# Altium schematic symbol library Diodes.SchLib: 45 symbols
Pins are listed as number, name and electrical type; pins without a type are passive.

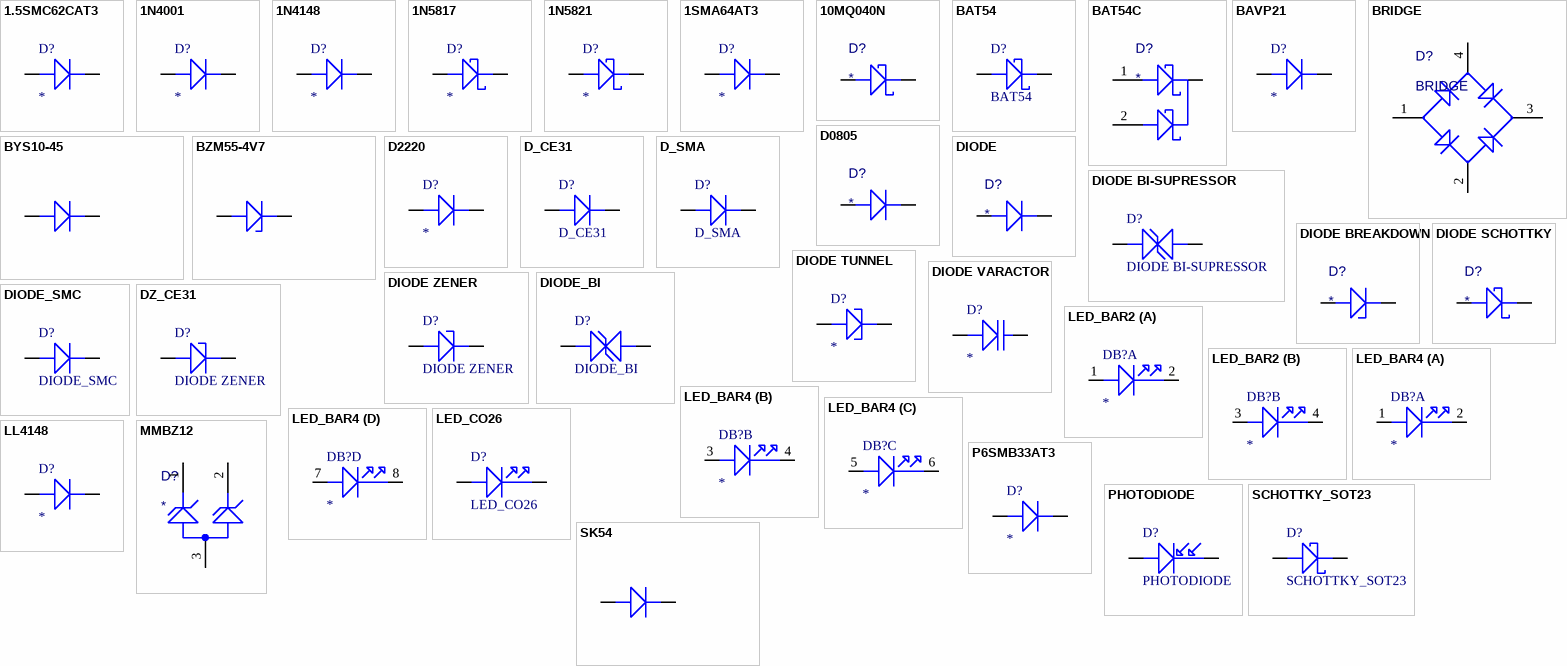
[diagram p0: symbols 1.5SMC62CAT3 to SK54]

## 1.5SMC62CAT3
designator D?
simulation model 15SMC62AT3 (Model Description)
pins: ANOD, CATH

## 1N4001
designator D?
Diode 1A/50V
footprint CE31
pins: ANOD, CATH

## 1N4148
designator D?
footprint CE02
footprint D301510
pins: ANOD, CATH

## 1N5817
designator D?
footprint CE31
footprint D402010
pins: ANOD, CATH

## 1N5821
designator D?
footprint D804020
pins: ANOD, CATH

## 1SMA64AT3
designator D?
pins: ANOD, CATH

## 10MQ040N
designator D?
Value: *
pins: ANOD, CATH

## BAT54
designator D?
Value: BAT54
simulation model BAT54 (Model Description)
pins: 1 ANOD, 1 CATH

## BAT54C
designator D?
Value: *
pins: 1 ANOD, 2 ANOD2, 3 CATH

## BAVP21
designator D?
footprint CE02
pins: ANOD, CATH

## BRIDGE
designator D?
Value: BRIDGE
pins: 1 DC-, 2 AC2, 3 DC+, 4 AC1

## BYS10-45
designator D?
footprint DO-214AC
pins: ANOD, CATH
1 alternate drawing of the same symbol

## BZM55-4V7
designator D?
footprint MICROMELF
pins: ANOD, CATH
1 alternate drawing of the same symbol

## D0805
designator D?
Value: *
pins: ANOD, CATH

## D2220
designator D?
footprint D2220
pins: ANOD, CATH

## D_CE31
designator D?
Value: D_CE31
footprint CE31
pins: ANOD, CATH

## D_SMA
designator D?
Value: D_SMA
footprint SMA
pins: ANOD, CATH

## DIODE
designator D?
Value: *
pins: ANOD, CATH

## DIODE BI-SUPRESSOR
designator D?
Value: DIODE BI-SUPRESSOR
pins: ANOD, CATH

## DIODE BREAKDOWN
designator D?
Value: *
pins: ANOD, CATH

## DIODE SCHOTTKY
designator D?
Value: *
pins: 1 CATH, 2 ANOD

## DIODE TUNNEL
designator D?
pins: ANOD, CATH

## DIODE VARACTOR
designator D?
pins: ANOD, CATH

## DIODE ZENER
designator D?
Value: DIODE ZENER
pins: ANOD, CATH

## DIODE_BI
designator D?
Value: DIODE_BI
pins: ANOD, CATH

## DIODE_SMC
designator D?
Value: DIODE_SMC
footprint SMC
pins: 1, 2

## DZ_CE31
designator D?, comment DIODE ZENER
Value: DIODE ZENER
footprint CE31
pins: ANOD, CATH

## LED_BAR2
designator DB?
part A pins: 1 ANOD, 2 CATH
part B pins: 3 ANOD, 4 CATH

## LED_BAR4
designator DB?
part A pins: 1 ANOD, 2 CATH
part B pins: 3 ANOD, 4 CATH
part C pins: 5 ANOD, 6 CATH
part D pins: 7 ANOD, 8 CATH

## LED_CO26
designator D?
Value: LED_CO26
footprint CO26
pins: ANOD, CATH

## LL4148
designator D?
footprint SOD80C
pins: ANOD, CATH

## MMBZ12
designator D?
Value: *
pins: 1, 2, 3

## P6SMB33AT3
designator D?
simulation model P6SMB33AT3 (Model Description)
pins: ANOD, CATH

## PHOTODIODE
designator D?
Value: PHOTODIODE
pins: ANOD, CATH

## SCHOTTKY_SOT23
designator D?
Value: SCHOTTKY_SOT23
footprint SOT23-3
pins: 1, 3

## SK54
designator D?
Value: SK54
footprint DO-214AB
pins: ANOD, CATH
1 alternate drawing of the same symbol

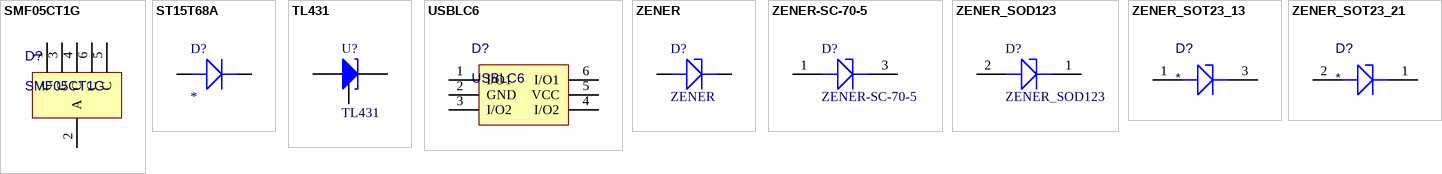
[diagram p1: symbols SMF05CT1G to ZENER_SOT23_21]

## SMF05CT1G
designator D?
Value: SMF05CT1G
pins: 1 C, 2 A, 3 C, 4 C, 5 C, 6 C

## ST15T68A
designator D?
footprint SMC (Footprint not found)
pins: 1 CATH, 2 ANOD

## TL431
designator U?
Value: TL431
pins: 1 K, 2 Ref, 3 A

## USBLC6
designator D?
Value: USBLC6
pins: 1 I/O1, 2 GND, 3 I/O2, 4 I/O2, 5 VCC, 6 I/O1

## ZENER
designator D?
Value: ZENER
pins: ANOD, CATH

## ZENER-SC-70-5
designator D?
Value: ZENER-SC-70-5
pins: 1, 3

## ZENER_SOD123
designator D?
Value: ZENER_SOD123
pins: 1, 2

## ZENER_SOT23_13
designator D?
Value: *
pins: 1, 3

## ZENER_SOT23_21
designator D?
Value: *
pins: 1, 2